# EAGLE library part EVERLIGHT_RGB1616_R6GHBHC (library own_parts2)
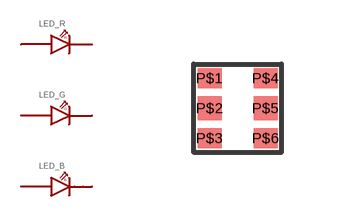
[diagram p0: symbol with the pads of LED_RGB_1616; footprint LED_RGB_1616]

Designator prefix LED; gates _R=LED_RGB_R _G=LED_RGB_G _B=LED_RGB_B

## EVERLIGHT_RGB1616_R6GHBHC  [LED_RGB_1616]
P$1  _B:P$1
P$2  _R:P$1
P$3  _G:P$1
P$4  _B:P$2
P$5  _R:P$2
P$6  _G:P$2

## Footprint LED_RGB_1616 (pad centres in mm)
smd 0.6 x 0.5: P$1 0.3,1.75; P$3 0.3,0.25; P$4 1.7,1.75; P$6 1.7,0.25
smd 0.6 x 0.6: P$2 0.3,1; P$5 1.7,1